# EAGLE library part BEAGLEBONE (library BeagleBoneBlack)
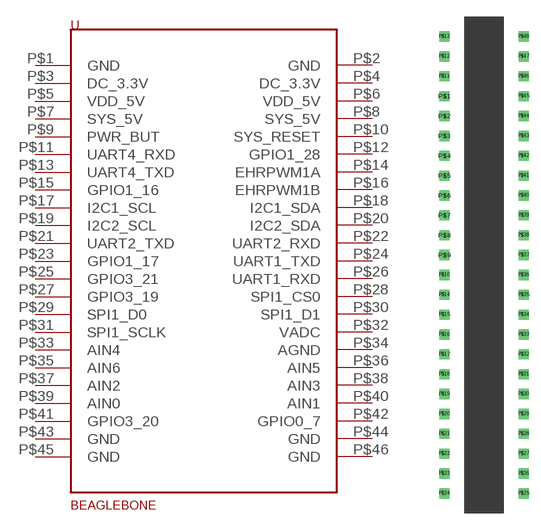
[diagram p0: symbol with the pads of BEAGLEBONE; footprint BEAGLEBONE]

Designator prefix -

## BEAGLEBONE  [BEAGLEBONE]
P$1  GND
P$2  GND
P$3  DC_3.3V
P$4  DC_3.3V
P$5  VDD_5V
P$6  VDD_5V
P$7  SYS_5V
P$8  SYS_5V
P$9  PWR_BUT
P$10  SYS_RESET
P$11  UART4_RXD
P$12  GPIO1_28
P$13  UART4_TXD
P$14  EHRPWM1A
P$15  GPIO1_16
P$16  EHRPWM1B
P$17  I2C1_SCL
P$18  I2C1_SDA
P$19  I2C2_SCL
P$20  I2C2_SDA
P$21  UART2_TXD
P$22  UART2_RXD
P$23  GPIO1_17
P$24  UART1_TXD
P$25  GPIO3_21
P$26  UART1_RXD
P$27  GPIO3_19
P$28  SPI1_CS0
P$29  SPI1_D0
P$30  SPI1_D1
P$31  SPI1_SCLK
P$32  VADC
P$33  AIN4
P$34  AGND
P$35  AIN6
P$36  AIN5
P$37  AIN2
P$38  AIN3
P$39  AIN0
P$40  AIN1
P$41  GPIO3_20
P$42  GPIO0_7
P$43  GND
P$44  GND
P$45  GND
P$46  GND

## Footprint BEAGLEBONE (pad centres in mm)
drill 0.8 square: P$1 -6.35,3.81; P$2 -6.35,1.27; P$3 -6.35,-1.27; P$4 -6.35,-3.81; P$5 -6.35,-6.35; P$6 -6.35,-8.89; P$7 -6.35,-11.43; P$8 -6.35,-13.97; P$9 -6.35,-16.51; P$10 -6.35,-19.05; P$11 -6.35,6.35; P$12 -6.35,8.89; P$13 -6.35,11.43; P$14 -6.35,-21.59; P$15 -6.35,-24.13; P$16 -6.35,-26.67; P$17 -6.35,-29.21; P$18 -6.35,-31.75; P$19 -6.35,-34.29; P$20 -6.35,-36.83; P$21 -6.35,-39.37; P$22 -6.35,-41.91; P$23 -6.35,-44.45; P$24 -6.35,-46.99; P$25 3.81,-46.99; P$26 3.81,-44.45; P$27 3.81,-41.91; P$28 3.81,-39.37; P$29 3.81,-36.83; P$30 3.81,-34.29; P$31 3.81,-31.75; P$32 3.81,-29.21; P$33 3.81,-26.67; P$34 3.81,-24.13; P$35 3.81,-21.59; P$36 3.81,-19.05; P$37 3.81,-16.51; P$38 3.81,-13.97; P$39 3.81,-11.43; P$40 3.81,-8.89; P$41 3.81,-6.35; P$42 3.81,-3.81; P$43 3.81,-1.27; P$44 3.81,1.27; P$45 3.81,3.81; P$46 3.81,6.35; P$47 3.81,8.89; P$48 3.81,11.43